# Altium integrated library Linear Technology Power Management Switching Regulator LTC1174-LTC3901.IntLib: 2647 symbols (part 174 of 364)
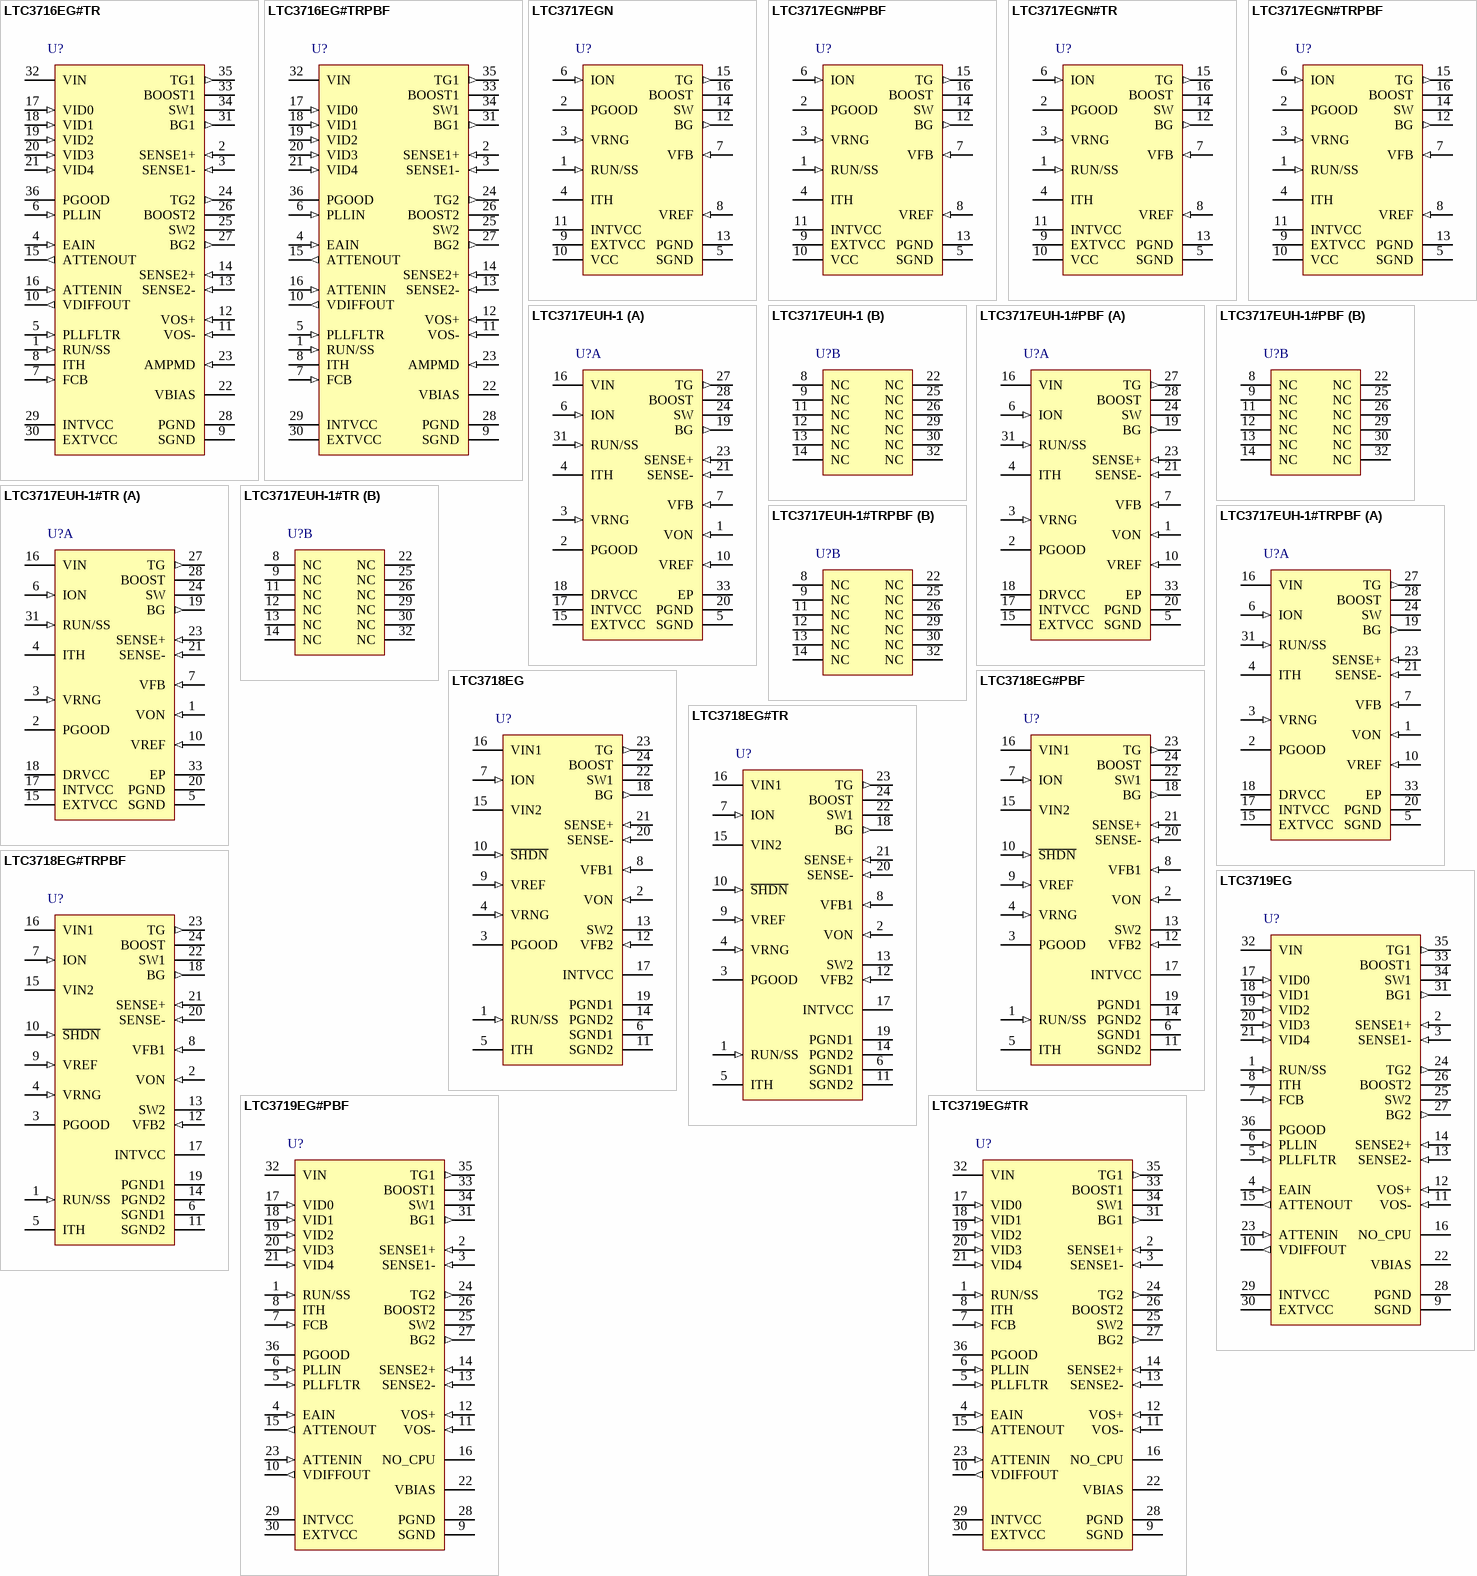
[diagram p204: symbols LTC3716EG#TR to LTC3719EG#TR]

## LTC3716EG#TRPBF
designator U?
2-Phase, 5-Bit VID, Current Mode, High Efficiency, Synchronous Step-Down Switching Regulator, 36-pin SOP (G-36), -40 to 85 degC, Pb-Free, Tape and Reel; Manufacturer: Linear Technology; PartNumber: LTC3716EG#TRPBF; Number of Outputs: 1; PackageReference: G-36; PackageDescription: 36-Pin Plastic SSOP, Body 12.8 x 5.3 mm, Pitch 0.65 mm; Supplier 1: Digi-Key; Supplier Part Number 1: LTC3716EG#TRPBF-ND; Packing: Tape and Reel; RoHS: TRUE; Mounting Technology: Surface Mount; ComponentLink1Description: Manufacturer URL; ComponentLink1URL: http://www.linear.com/; ComponentLink2Description: Datasheet; ComponentLink2URL: http://cds.linear.com/docs/en/datasheet/3716f.pdf; ComponentLink3Description: Package Specification; ComponentLink3URL: http://cds.linear.com/docs/en/packaging/SSOP_36_05-08-1640.pdf
footprint LT-G-36_N (SOP, 36-Leads, Body 13.1x5.6mm, Pitch 0.65mm, IPC Medium Density)
footprint LT-G-36_L (SOP, 36-Leads, Body 13.1x5.6mm, Pitch 0.65mm, IPC High Density)
footprint LT-G-36_M (SOP, 36-Leads, Body 13.1x5.6mm, Pitch 0.65mm, IPC Low Density)
pins: 1 RUN/SS (in) "Combination of Soft-Start, Run Control Input and Short-Circuit Detection Timer. A capacitor to ground at this pin sets the ramp time to full current output. Forcing this pin below 0.8V causes the IC to shut down all internal (See Datasheet)", 2 SENSE1+ (in) "The (+) Input to Each Differential Current Comparator. The ITH pin voltage and built-in offsets between SENSE-  and SENSE+  pins in conjunction with RSENSE set the current trip threshold.", 3 SENSE1- (in) "The (-) Input to the Differential Current Comparators.", 4 EAIN (in) "Input to the error amplifier that compares the feedback voltage to the internal 0.6V reference voltage. This pin is normally connected to a resistive divider from the output of the differential amplifier (DIFFOUT).", 5 PLLFLTR (in) "The phase-locked loop’s lowpass filter is tied to this pin. Alternatively, this pin can be driven with an AC or DC voltage source to vary the frequency of the internal oscillator. Do not apply voltage to this pin prior t(See Datasheet)", 6 PLLIN (in) "External Synchronization Input to Phase Detector. This pin is internally terminated to SGND with 50k ohm. The phase-locked loop will force the rising top gate signal of controller 1 to be synchronized with the rising edge of (See Datasheet)", 7 FCB (in) "Forced Continuous Control Input. This input acts on both output stages and can be used to regulate a secondary winding. Pulling this pin below 0.6V will force continuous synchronous operation. Do not leave this pin floating (See Datasheet)", 8 ITH "Error Amplifier Output and Switching Regulator Compensation Point. Both current comparator’s thresholds increase with this control voltage. The normal voltage range of this pin is from 0V to 2.4V", 9 SGND (power) "Signal Ground. This pin is common to both controllers. Route separately to the PGND pin.", 10 VDIFFOUT (out) "Output of a Differential Amplifier. This pin provides true remote output voltage sensing. VDIFFOUT normally drives an external resistive divider that sets the output voltage.", 11 VOS- (in) "Inputs toan Operational Amplifier. Internal precision resistors configure it as a differential amplifier whose output is VDIFFOUT.", 12 VOS+ (in) "Inputs toan Operational Amplifier. Internal precision resistors configure it as a differential amplifier whose output is VDIFFOUT.", 13 SENSE2- (in) "The (-) Input to the Differential Current Comparators.", 14 SENSE2+ (in) "The (+) Input to Each Differential Current Comparator. The ITH pin voltage and built-in offsets between SENSE-  and SENSE+  pins in conjunction with RSENSE set the current trip threshold.", 15 ATTENOUT (out) "Voltage Feedback Signal Resistively Divided According to the VID Programming Code.", 16 ATTENIN (in) "The Input to the VID Controlled Resistive Divider.", 17 VID0 (in) "VID Control Logic Input Pins.", 18 VID1 (in) "VID Control Logic Input Pins.", 19 VID2 (in) "VID Control Logic Input Pins.", 20 VID3 (in) "VID Control Logic Input Pins.", 21 VID4 (in) "VID Control Logic Input Pins.", 22 VBIAS (power) "Supply Pin for the VID Control Circuit.", 23 AMPMD (in) "This Logic Input pin controls the connections of internal precision resistors that configure the operational amplifier as a unity-gain differential amplifier.", 24 TG2 (out) "High Current Gate Drives for Top N-Channel MOSFETS. These are the outputs of floating drivers with a voltage swing equal to INTVCC superimposed on the switch node voltage SW.", 25 SW2 "Switch Node Connections to Inductors. Voltage swing at these pins is from a Schottky diode (external) voltage drop below ground to VIN", 26 BOOST2 "Bootstrapped Supplies to the Topside Floating Drivers. External capacitors are connected between the BOOST and SW pins, and Schottky diodes are connected between the BOOST and INTVCC pins.", 27 BG2 (out) "High Current Gate Drives for Bottom N-Channel MOSFETS. Voltage swing at these pins is from ground to INTVCC.", 28 PGND (power) "Driver Power Ground. Connect to sources of bottom N-channel MOSFETS and the (-) terminals of CIN.", 29 INTVCC (power) "Output of the Internal 5V Linear Low Dropout Regulator and the EXTVCC Switch. The driver and control circuits are powered from this voltage source. Decouple to power ground with a 1uF ceramic capacitor placed directly (See Datasheet)", 30 EXTVCC (power) "Power Input to an Internal Switch. This switch closes and supplies INTVCC, bypassing the internallow dropout regulator whenever EXTVCC is higher than 4.7V. See EXTVCC Connection in the Applications Information section. Do (See Datasheet)", 31 BG1 (out) "High Current Gate Drives for Bottom N-Channel MOSFETS. Voltage swing at these pins is from ground to INTVCC.", 32 VIN (power) "Main Supply Pin. Should be closely decoupled to the IC’s signal ground pin.", 33 BOOST1 "Bootstrapped Supplies to the Topside Floating Drivers. External capacitors are connected between the BOOST and SW pins, and Schottky diodes are connected between the BOOST and INTVCC pins.", 34 SW1 "Switch Node Connections to Inductors. Voltage swing at these pins is from a Schottky diode (external) voltage drop below ground to VIN", 35 TG1 (out) "High Current Gate Drives for Top N-Channel MOSFETS. These are the outputs of floating drivers with a voltage swing equal to INTVCC superimposed on the switch node voltage SW.", 36 PGOOD (oc) "Open-Drain Logic Output. PGOOD is pulled to ground when the voltage on the EAIN pin is not within +/-10% of its set point."

## LTC3717EGN
designator U?
Wide Operating Range, No Rsense Step-Down Controller for DDR / QDR Memory Termination, 4 to 36 V Vin, 16-pin SOP (GN-16), -40 to 85 degC; Manufacturer: Linear Technology; PartNumber: LTC3717EGN; Number of Outputs: 1; PackageVersion: Rev. B, 03/2012; PackageReference: GN-16; PackageDescription: 16-Pin Plastic SSOP, Body 4.9 x 3.9 mm, Pitch 0.635 mm; Supplier 1: Digi-Key; Supplier Part Number 1: LTC3717EGN-ND; RoHS: FALSE; Mounting Technology: Surface Mount; ComponentLink1Description: Manufacturer URL; ComponentLink1URL: http://www.linear.com/; ComponentLink2Description: Datasheet; ComponentLink2URL: http://cds.linear.com/docs/en/datasheet/3717fs.pdf; ComponentLink3Description: Package Specification; ComponentLink3URL: http://cds.linear.com/docs/en/packaging/05081641_B_GN16.pdf
footprint LT-GN-16_N (SOP, 16-Leads, Body 5x4mm, Pitch 0.635mm, IPC Medium Density)
footprint LT-GN-16_L (SOP, 16-Leads, Body 5x4mm, Pitch 0.635mm, IPC High Density)
footprint LT-GN-16_M (SOP, 16-Leads, Body 5x4mm, Pitch 0.635mm, IPC Low Density)
pins: 1 RUN/SS (in) "Run Control and Soft-Start Input. A capacitor to ground at this pin sets the ramp time to full output current (approximately 3s/uF) and the time delay for overcurrent latchoff (see Applications Information).  Forcing this (See Datasheet)", 2 PGOOD (oc) "Power Good Output. Open drain logic output that is pulled to ground when the output voltage is not within +/-10% of the regulation point.", 3 VRNG (in) "Sense Voltage Range Input. The voltage at this pin is ten times the nominal sense voltage at maximum output current and can be set from 0.5V to 2V by a resistive divider from INTVCC. The nominal sense voltage defaults to (See Datasheet)", 4 ITH "Current Control Threshold and Error Amplifier Compensation Point. The current comparator threshold increases with this control voltage. The voltage ranges from 0V to 2.4V with 0.8V corresponding to zero sense voltage (zero (See Datasheet)", 5 SGND (power) "Signal Ground. All small-signal components and compensation components should connect to this ground, which in turn connects to PGND at one point.", 6 ION (in) "On-Time Current Input. Tie a resistor from VIN to this pin to set the one-shot timer current and thereby set the switching frequency.", 7 VFB (in) "Error Amplifier Feedback Input. This pin connects to VOUT and divides its voltage to 2/3 x VFB through precision internal resistors before it is applied to the input of the error amplifier. Do not apply more than 1.5V on VFB.(See Datasheet)", 8 VREF (in) "Positive Input of Internal Error Amplifier. This pin connects to an external reference and divides its voltage to 1/3 VREF through precision internal resisters before it is applied to the positive input of the error (See Datasheet)", 9 EXTVCC (power) "External VCC Input. When EXTVCC exceeds 4.7V, an internal switch connects this pin to INTVCC and shuts down the internal regulator so that controller and gate drive power is drawn from EXTVCC. Do not exceed 7V at this pin (See Datasheet)", 10 VCC (power) "Bias Input Supply. 4V to 36V operating range. Decouple this pin to PGND with an RC filter (1ohm, 0.1uF).", 11 INTVCC (power) "Internal 5V Regulator Output. The driver and control circuits are powered from this voltage. Decouple this pin to power ground with a minimum of 4.7uF low ESR tantalum or ceramic capacitor", 12 BG (out) "Bottom Gate Drive. Drives the gate of the bottom N-channel MOSFET between ground and INTVCC.", 13 PGND (power) "Power Ground. Connect this pin closely to the source of the bottom N-channel MOSFET, the (-) terminal of CVCC and the (-) terminal of CIN.", 14 SW "Switch Node. The (-) terminal of the bootstrap capacitor CB connects here. This pin swings from a diode voltage drop below ground up to a diode voltage drop above VIN.", 15 TG (out) "Top Gate Drive. Drives the top N-channel MOSFET with a voltage swing equal to INTVCC superimposed on the switch node voltage SW.", 16 BOOST "Boosted Floating Driver Supply. The (+) terminal of the bootstrap capacitor CB connects here. This pin swings from a diode voltage drop below INTVCC up to VIN + INTVCC."

## LTC3717EGN#PBF
designator U?
Wide Operating Range, No Rsense Step-Down Controller for DDR / QDR Memory Termination, 4 to 36 V Vin, 16-pin SOP (GN-16), -40 to 85 degC, Pb-Free; Manufacturer: Linear Technology; PartNumber: LTC3717EGN#PBF; Number of Outputs: 1; PackageVersion: Rev. B, 03/2012; PackageReference: GN-16; PackageDescription: 16-Pin Plastic SSOP, Body 4.9 x 3.9 mm, Pitch 0.635 mm; Supplier 1: Digi-Key; Supplier Part Number 1: LTC3717EGN#PBF-ND; Supplier 2: Newark; Supplier Part Number 2: 56M8133; RoHS: TRUE; Mounting Technology: Surface Mount; ComponentLink1Description: Manufacturer URL; ComponentLink1URL: http://www.linear.com/; ComponentLink2Description: Datasheet; ComponentLink2URL: http://cds.linear.com/docs/en/datasheet/3717fs.pdf; ComponentLink3Description: Package Specification; ComponentLink3URL: http://cds.linear.com/docs/en/packaging/05081641_B_GN16.pdf
footprint LT-GN-16_N (SOP, 16-Leads, Body 5x4mm, Pitch 0.635mm, IPC Medium Density)
footprint LT-GN-16_L (SOP, 16-Leads, Body 5x4mm, Pitch 0.635mm, IPC High Density)
footprint LT-GN-16_M (SOP, 16-Leads, Body 5x4mm, Pitch 0.635mm, IPC Low Density)
pins: 1 RUN/SS (in) "Run Control and Soft-Start Input. A capacitor to ground at this pin sets the ramp time to full output current (approximately 3s/uF) and the time delay for overcurrent latchoff (see Applications Information).  Forcing this (See Datasheet)", 2 PGOOD (oc) "Power Good Output. Open drain logic output that is pulled to ground when the output voltage is not within +/-10% of the regulation point.", 3 VRNG (in) "Sense Voltage Range Input. The voltage at this pin is ten times the nominal sense voltage at maximum output current and can be set from 0.5V to 2V by a resistive divider from INTVCC. The nominal sense voltage defaults to (See Datasheet)", 4 ITH "Current Control Threshold and Error Amplifier Compensation Point. The current comparator threshold increases with this control voltage. The voltage ranges from 0V to 2.4V with 0.8V corresponding to zero sense voltage (zero (See Datasheet)", 5 SGND (power) "Signal Ground. All small-signal components and compensation components should connect to this ground, which in turn connects to PGND at one point.", 6 ION (in) "On-Time Current Input. Tie a resistor from VIN to this pin to set the one-shot timer current and thereby set the switching frequency.", 7 VFB (in) "Error Amplifier Feedback Input. This pin connects to VOUT and divides its voltage to 2/3 x VFB through precision internal resistors before it is applied to the input of the error amplifier. Do not apply more than 1.5V on VFB.(See Datasheet)", 8 VREF (in) "Positive Input of Internal Error Amplifier. This pin connects to an external reference and divides its voltage to 1/3 VREF through precision internal resisters before it is applied to the positive input of the error (See Datasheet)", 9 EXTVCC (power) "External VCC Input. When EXTVCC exceeds 4.7V, an internal switch connects this pin to INTVCC and shuts down the internal regulator so that controller and gate drive power is drawn from EXTVCC. Do not exceed 7V at this pin (See Datasheet)", 10 VCC (power) "Bias Input Supply. 4V to 36V operating range. Decouple this pin to PGND with an RC filter (1ohm, 0.1uF).", 11 INTVCC (power) "Internal 5V Regulator Output. The driver and control circuits are powered from this voltage. Decouple this pin to power ground with a minimum of 4.7uF low ESR tantalum or ceramic capacitor", 12 BG (out) "Bottom Gate Drive. Drives the gate of the bottom N-channel MOSFET between ground and INTVCC.", 13 PGND (power) "Power Ground. Connect this pin closely to the source of the bottom N-channel MOSFET, the (-) terminal of CVCC and the (-) terminal of CIN.", 14 SW "Switch Node. The (-) terminal of the bootstrap capacitor CB connects here. This pin swings from a diode voltage drop below ground up to a diode voltage drop above VIN.", 15 TG (out) "Top Gate Drive. Drives the top N-channel MOSFET with a voltage swing equal to INTVCC superimposed on the switch node voltage SW.", 16 BOOST "Boosted Floating Driver Supply. The (+) terminal of the bootstrap capacitor CB connects here. This pin swings from a diode voltage drop below INTVCC up to VIN + INTVCC."

## LTC3717EGN#TR
designator U?
Wide Operating Range, No Rsense Step-Down Controller for DDR / QDR Memory Termination, 4 to 36 V Vin, 16-pin SOP (GN-16), -40 to 85 degC, Tape and Reel; Manufacturer: Linear Technology; PartNumber: LTC3717EGN#TR; Number of Outputs: 1; PackageVersion: Rev. B, 03/2012; PackageReference: GN-16; PackageDescription: 16-Pin Plastic SSOP, Body 4.9 x 3.9 mm, Pitch 0.635 mm; Supplier 1: Digi-Key; Supplier Part Number 1: LTC3717EGNTR-ND; Packing: Tape and Reel; RoHS: FALSE; Mounting Technology: Surface Mount; ComponentLink1Description: Manufacturer URL; ComponentLink1URL: http://www.linear.com/; ComponentLink2Description: Datasheet; ComponentLink2URL: http://cds.linear.com/docs/en/datasheet/3717fs.pdf; ComponentLink3Description: Package Specification; ComponentLink3URL: http://cds.linear.com/docs/en/packaging/05081641_B_GN16.pdf
footprint LT-GN-16_N (SOP, 16-Leads, Body 5x4mm, Pitch 0.635mm, IPC Medium Density)
footprint LT-GN-16_L (SOP, 16-Leads, Body 5x4mm, Pitch 0.635mm, IPC High Density)
footprint LT-GN-16_M (SOP, 16-Leads, Body 5x4mm, Pitch 0.635mm, IPC Low Density)
pins: 1 RUN/SS (in) "Run Control and Soft-Start Input. A capacitor to ground at this pin sets the ramp time to full output current (approximately 3s/uF) and the time delay for overcurrent latchoff (see Applications Information).  Forcing this (See Datasheet)", 2 PGOOD (oc) "Power Good Output. Open drain logic output that is pulled to ground when the output voltage is not within +/-10% of the regulation point.", 3 VRNG (in) "Sense Voltage Range Input. The voltage at this pin is ten times the nominal sense voltage at maximum output current and can be set from 0.5V to 2V by a resistive divider from INTVCC. The nominal sense voltage defaults to (See Datasheet)", 4 ITH "Current Control Threshold and Error Amplifier Compensation Point. The current comparator threshold increases with this control voltage. The voltage ranges from 0V to 2.4V with 0.8V corresponding to zero sense voltage (zero (See Datasheet)", 5 SGND (power) "Signal Ground. All small-signal components and compensation components should connect to this ground, which in turn connects to PGND at one point.", 6 ION (in) "On-Time Current Input. Tie a resistor from VIN to this pin to set the one-shot timer current and thereby set the switching frequency.", 7 VFB (in) "Error Amplifier Feedback Input. This pin connects to VOUT and divides its voltage to 2/3 x VFB through precision internal resistors before it is applied to the input of the error amplifier. Do not apply more than 1.5V on VFB.(See Datasheet)", 8 VREF (in) "Positive Input of Internal Error Amplifier. This pin connects to an external reference and divides its voltage to 1/3 VREF through precision internal resisters before it is applied to the positive input of the error (See Datasheet)", 9 EXTVCC (power) "External VCC Input. When EXTVCC exceeds 4.7V, an internal switch connects this pin to INTVCC and shuts down the internal regulator so that controller and gate drive power is drawn from EXTVCC. Do not exceed 7V at this pin (See Datasheet)", 10 VCC (power) "Bias Input Supply. 4V to 36V operating range. Decouple this pin to PGND with an RC filter (1ohm, 0.1uF).", 11 INTVCC (power) "Internal 5V Regulator Output. The driver and control circuits are powered from this voltage. Decouple this pin to power ground with a minimum of 4.7uF low ESR tantalum or ceramic capacitor", 12 BG (out) "Bottom Gate Drive. Drives the gate of the bottom N-channel MOSFET between ground and INTVCC.", 13 PGND (power) "Power Ground. Connect this pin closely to the source of the bottom N-channel MOSFET, the (-) terminal of CVCC and the (-) terminal of CIN.", 14 SW "Switch Node. The (-) terminal of the bootstrap capacitor CB connects here. This pin swings from a diode voltage drop below ground up to a diode voltage drop above VIN.", 15 TG (out) "Top Gate Drive. Drives the top N-channel MOSFET with a voltage swing equal to INTVCC superimposed on the switch node voltage SW.", 16 BOOST "Boosted Floating Driver Supply. The (+) terminal of the bootstrap capacitor CB connects here. This pin swings from a diode voltage drop below INTVCC up to VIN + INTVCC."

## LTC3717EGN#TRPBF
designator U?
Wide Operating Range, No Rsense Step-Down Controller for DDR / QDR Memory Termination, 4 to 36 V Vin, 16-pin SOP (GN-16), -40 to 85 degC, Pb-Free, Tape and Reel; Manufacturer: Linear Technology; PartNumber: LTC3717EGN#TRPBF; Number of Outputs: 1; PackageVersion: Rev. B, 03/2012; PackageReference: GN-16; PackageDescription: 16-Pin Plastic SSOP, Body 4.9 x 3.9 mm, Pitch 0.635 mm; Supplier 1: Digi-Key; Supplier Part Number 1: LTC3717EGN#TRPBF-ND; Packing: Tape and Reel; RoHS: TRUE; Mounting Technology: Surface Mount; ComponentLink1Description: Manufacturer URL; ComponentLink1URL: http://www.linear.com/; ComponentLink2Description: Datasheet; ComponentLink2URL: http://cds.linear.com/docs/en/datasheet/3717fs.pdf; ComponentLink3Description: Package Specification; ComponentLink3URL: http://cds.linear.com/docs/en/packaging/05081641_B_GN16.pdf
footprint LT-GN-16_N (SOP, 16-Leads, Body 5x4mm, Pitch 0.635mm, IPC Medium Density)
footprint LT-GN-16_L (SOP, 16-Leads, Body 5x4mm, Pitch 0.635mm, IPC High Density)
footprint LT-GN-16_M (SOP, 16-Leads, Body 5x4mm, Pitch 0.635mm, IPC Low Density)
pins: 1 RUN/SS (in) "Run Control and Soft-Start Input. A capacitor to ground at this pin sets the ramp time to full output current (approximately 3s/uF) and the time delay for overcurrent latchoff (see Applications Information).  Forcing this (See Datasheet)", 2 PGOOD (oc) "Power Good Output. Open drain logic output that is pulled to ground when the output voltage is not within +/-10% of the regulation point.", 3 VRNG (in) "Sense Voltage Range Input. The voltage at this pin is ten times the nominal sense voltage at maximum output current and can be set from 0.5V to 2V by a resistive divider from INTVCC. The nominal sense voltage defaults to (See Datasheet)", 4 ITH "Current Control Threshold and Error Amplifier Compensation Point. The current comparator threshold increases with this control voltage. The voltage ranges from 0V to 2.4V with 0.8V corresponding to zero sense voltage (zero (See Datasheet)", 5 SGND (power) "Signal Ground. All small-signal components and compensation components should connect to this ground, which in turn connects to PGND at one point.", 6 ION (in) "On-Time Current Input. Tie a resistor from VIN to this pin to set the one-shot timer current and thereby set the switching frequency.", 7 VFB (in) "Error Amplifier Feedback Input. This pin connects to VOUT and divides its voltage to 2/3 x VFB through precision internal resistors before it is applied to the input of the error amplifier. Do not apply more than 1.5V on VFB.(See Datasheet)", 8 VREF (in) "Positive Input of Internal Error Amplifier. This pin connects to an external reference and divides its voltage to 1/3 VREF through precision internal resisters before it is applied to the positive input of the error (See Datasheet)", 9 EXTVCC (power) "External VCC Input. When EXTVCC exceeds 4.7V, an internal switch connects this pin to INTVCC and shuts down the internal regulator so that controller and gate drive power is drawn from EXTVCC. Do not exceed 7V at this pin (See Datasheet)", 10 VCC (power) "Bias Input Supply. 4V to 36V operating range. Decouple this pin to PGND with an RC filter (1ohm, 0.1uF).", 11 INTVCC (power) "Internal 5V Regulator Output. The driver and control circuits are powered from this voltage. Decouple this pin to power ground with a minimum of 4.7uF low ESR tantalum or ceramic capacitor", 12 BG (out) "Bottom Gate Drive. Drives the gate of the bottom N-channel MOSFET between ground and INTVCC.", 13 PGND (power) "Power Ground. Connect this pin closely to the source of the bottom N-channel MOSFET, the (-) terminal of CVCC and the (-) terminal of CIN.", 14 SW "Switch Node. The (-) terminal of the bootstrap capacitor CB connects here. This pin swings from a diode voltage drop below ground up to a diode voltage drop above VIN.", 15 TG (out) "Top Gate Drive. Drives the top N-channel MOSFET with a voltage swing equal to INTVCC superimposed on the switch node voltage SW.", 16 BOOST "Boosted Floating Driver Supply. The (+) terminal of the bootstrap capacitor CB connects here. This pin swings from a diode voltage drop below INTVCC up to VIN + INTVCC."

## LTC3717EUH-1
designator U?
Wide Operating Range, No Rsense Step-Down Controller for DDR / QDR Memory Termination = 1/2 Vref, 0.7 to 18 V Vout, 32-pin QFN (UH-32), -40 to 85 degC; Manufacturer: Linear Technology; PartNumber: LTC3717EUH-1; Number of Outputs: 1; PackageVersion: Rev. D, 06/2010; PackageReference: UH-32; PackageDescription: 32-Pin Plastic QFN, Body 5 x 5 mm, Pitch 0.5 mm; Supplier 1: Digi-Key; Supplier Part Number 1: LTC3717EUH-1-ND; RoHS: FALSE; Mounting Technology: Surface Mount; Code_JEDEC: MO-220; ComponentLink1Description: Manufacturer URL; ComponentLink1URL: http://www.linear.com/; ComponentLink2Description: Datasheet; ComponentLink2URL: http://cds.linear.com/docs/en/datasheet/37171fs.pdf; ComponentLink3Description: Package Specification; ComponentLink3URL: http://cds.linear.com/docs/en/packaging/QFN_32_05-08-1693.pdf
footprint LT-UH-32_N (QFN, 32-Leads, Body 5.1x5.1mm, Pitch 0.5mm, Thermal Pad 3.45X3.45mm, IPC Medium Density)
footprint LT-UH-32_L (QFN, 32-Leads, Body 5.1x5.1mm, Pitch 0.5mm, Thermal Pad 3.45X3.45mm, IPC High Density)
footprint LT-UH-32_M (QFN, 32-Leads, Body 5.1x5.1mm, Pitch 0.5mm, Thermal Pad 3.45X3.45mm, IPC Low Density)
part A pins: 1 VON (in) "On-Time Voltage Input. Voltage trip point for the on-time comparator. Tying this pin to the output voltage makes the on-time proportional to VOUT. The comparator input defaults to 0.7V when the pin is grounded, 2.4V when the (See Datasheet)", 2 PGOOD (oc) "Power Good Output. Open-drain logic output that is pulled to ground when the output voltage is not within +/-10% of the regulation point.", 3 VRNG (in) "Sense Voltage Range Input. The voltage at this pin is ten times the nominal sense voltage at maximum output current and can be set from 0.5V to 2V by a resistive divider from INTVCC. The nominal sense voltage defaults to (See Datasheet)", 4 ITH "Current Control Threshold and Error Amplifier Compensation Point. The current comparator threshold increases with this control voltage. The voltage ranges from 0V to 2.4V with 0.8V corresponding to zero sense voltage (zero (See Datasheet)", 5 SGND (power) "Signal Ground. All small-signal components and compensation components should connect to this ground, which in turn connects to PGND at one point. Pin 5 is electrically connected to the exposed pad. Exposed pad must be (See Datasheet)", 6 ION (in) "On-Time Current Input. Tie a resistor from VIN to this pin to set the one-shot timer current and thereby set the switching frequency.", 7 VFB (in) "Error Amplifier Feedback Input. This pin connects to VOUT and divides its voltage to 2/3 ?VFB through precision internal resistors before it is applied to the input of the error amplifier. Do not apply more than 1.5V o(See Datasheet)", 10 VREF (in) "Positive Input of Internal Error Amplifier. This pin connects to an external reference and divides its voltage to 1/3 VREF through precision internal resisters before it is applied to the positive input of the error (See Datasheet)", 15 EXTVCC (power) "External VCC Input. When EXTVCC exceeds 4.7V, an internal switch connects this pin to INTVCC and shuts down the internal regulator so that controller and gate drive power is drawn from EXTVCC. Do not exceed 7V at this pin (See Datasheet)", 16 VIN (power) "Main Input Supply. Decouple this pin to PGND with an RC filter (1ohm, 0.1uF).", 17 INTVCC (power) "Internal Regulator Output. The control circuits are powered from this voltage when VIN is greater than 5V. Decouple this pin to power ground with a minimum of 4.7uF low ESR tantalum or ceramic capacitor.", 18 DRVCC (power) "Voltage Supply to Bottom Gate Driver. Normally connected to the INTVCC pin through a decoupling RC filter (1ohm/0.1uF). Decouple this pin to power ground with a minimum of 4.7uF low ESR tantalum or ceramic capacitor. Do not (See Datasheet)", 19 BG (out) "Bottom Gate Drive. Drives the gate of the bottom N-channel MOSFET between ground and DRVCC.", 20 PGND (power) "Power Ground. Connect these pins closely to the source of the bottom N-channel MOSFET, the (-) terminal of CVCC and the (-) terminal of CIN.", 21 SENSE- (in) "Negative Current Sense Comparator Input. The (-) input to the current comparator is normally connected to power ground unless using a resistive divider from INTVCC (see Applications Information).", 23 SENSE+ (in) "Positive Current Sense Comparator Input. The (+) input to the current comparator is normally connected to the SW node unless using a sense resistor (see Applications Information).", 24 SW "Switch Node. The (-) terminal of the bootstrap capacitor CB connects here. This pin swings from a diode voltage drop below ground up to VIN.", 27 TG (out) "Gate Drive. Drives the top N-channel MOSFET with a voltage swing equal to INTVCC superimposed on the switch node voltage SW.", 28 BOOST "Boosted Floating Driver Supply. The (+) terminal of the bootstrap capacitor CB connects here. This pin swings from a diode voltage drop below INTVCC up to VIN + INTVCC.", 31 RUN/SS (in) "Run Control and Soft-Start Input. A capacitor to ground at this pin sets the ramp time to full output current (approximately 3s/uF) and the time delay for overcurrent latchoff (see Applications Information). Forcing this pin (See Datasheet)", 33 EP (power) "Signal Ground. All small-signal components and compensation components should connect to this ground, which in turn connects to PGND at one point. Pin 5 is electrically connected to the exposed pad. Exposed pad must be (See Datasheet)"
part B pins: 8 NC "Do Not Connect.", 9 NC "Do Not Connect.", 11 NC "Do Not Connect.", 12 NC "Do Not Connect.", 13 NC "Do Not Connect.", 14 NC "Do Not Connect.", 22 NC "Do Not Connect.", 25 NC "Do Not Connect.", 26 NC "Do Not Connect.", 29 NC "Do Not Connect.", 30 NC "Do Not Connect.", 32 NC "Do Not Connect."

## LTC3717EUH-1#PBF
designator U?
Wide Operating Range, No Rsense Step-Down Controller for DDR / QDR Memory Termination = 1/2 Vref, 0.7 to 18 V Vout, 32-pin QFN (UH-32), -40 to 85 degC, Pb-Free; Manufacturer: Linear Technology; PartNumber: LTC3717EUH-1#PBF; Number of Outputs: 1; PackageVersion: Rev. D, 06/2010; PackageReference: UH-32; PackageDescription: 32-Pin Plastic QFN, Body 5 x 5 mm, Pitch 0.5 mm; Supplier 1: Digi-Key; Supplier Part Number 1: LTC3717EUH-1#PBF-ND; RoHS: TRUE; Mounting Technology: Surface Mount; Code_JEDEC: MO-220; ComponentLink1Description: Manufacturer URL; ComponentLink1URL: http://www.linear.com/; ComponentLink2Description: Datasheet; ComponentLink2URL: http://cds.linear.com/docs/en/datasheet/37171fs.pdf; ComponentLink3Description: Package Specification; ComponentLink3URL: http://cds.linear.com/docs/en/packaging/QFN_32_05-08-1693.pdf
footprint LT-UH-32_N (QFN, 32-Leads, Body 5.1x5.1mm, Pitch 0.5mm, Thermal Pad 3.45X3.45mm, IPC Medium Density)
footprint LT-UH-32_L (QFN, 32-Leads, Body 5.1x5.1mm, Pitch 0.5mm, Thermal Pad 3.45X3.45mm, IPC High Density)
footprint LT-UH-32_M (QFN, 32-Leads, Body 5.1x5.1mm, Pitch 0.5mm, Thermal Pad 3.45X3.45mm, IPC Low Density)
part A pins: 1 VON (in) "On-Time Voltage Input. Voltage trip point for the on-time comparator. Tying this pin to the output voltage makes the on-time proportional to VOUT. The comparator input defaults to 0.7V when the pin is grounded, 2.4V when the (See Datasheet)", 2 PGOOD (oc) "Power Good Output. Open-drain logic output that is pulled to ground when the output voltage is not within +/-10% of the regulation point.", 3 VRNG (in) "Sense Voltage Range Input. The voltage at this pin is ten times the nominal sense voltage at maximum output current and can be set from 0.5V to 2V by a resistive divider from INTVCC. The nominal sense voltage defaults to (See Datasheet)", 4 ITH "Current Control Threshold and Error Amplifier Compensation Point. The current comparator threshold increases with this control voltage. The voltage ranges from 0V to 2.4V with 0.8V corresponding to zero sense voltage (zero (See Datasheet)", 5 SGND (power) "Signal Ground. All small-signal components and compensation components should connect to this ground, which in turn connects to PGND at one point. Pin 5 is electrically connected to the exposed pad. Exposed pad must be (See Datasheet)", 6 ION (in) "On-Time Current Input. Tie a resistor from VIN to this pin to set the one-shot timer current and thereby set the switching frequency.", 7 VFB (in) "Error Amplifier Feedback Input. This pin connects to VOUT and divides its voltage to 2/3 ?VFB through precision internal resistors before it is applied to the input of the error amplifier. Do not apply more than 1.5V o(See Datasheet)", 10 VREF (in) "Positive Input of Internal Error Amplifier. This pin connects to an external reference and divides its voltage to 1/3 VREF through precision internal resisters before it is applied to the positive input of the error (See Datasheet)", 15 EXTVCC (power) "External VCC Input. When EXTVCC exceeds 4.7V, an internal switch connects this pin to INTVCC and shuts down the internal regulator so that controller and gate drive power is drawn from EXTVCC. Do not exceed 7V at this pin (See Datasheet)", 16 VIN (power) "Main Input Supply. Decouple this pin to PGND with an RC filter (1ohm, 0.1uF).", 17 INTVCC (power) "Internal Regulator Output. The control circuits are powered from this voltage when VIN is greater than 5V. Decouple this pin to power ground with a minimum of 4.7uF low ESR tantalum or ceramic capacitor.", 18 DRVCC (power) "Voltage Supply to Bottom Gate Driver. Normally connected to the INTVCC pin through a decoupling RC filter (1ohm/0.1uF). Decouple this pin to power ground with a minimum of 4.7uF low ESR tantalum or ceramic capacitor. Do not (See Datasheet)", 19 BG (out) "Bottom Gate Drive. Drives the gate of the bottom N-channel MOSFET between ground and DRVCC.", 20 PGND (power) "Power Ground. Connect these pins closely to the source of the bottom N-channel MOSFET, the (-) terminal of CVCC and the (-) terminal of CIN.", 21 SENSE- (in) "Negative Current Sense Comparator Input. The (-) input to the current comparator is normally connected to power ground unless using a resistive divider from INTVCC (see Applications Information).", 23 SENSE+ (in) "Positive Current Sense Comparator Input. The (+) input to the current comparator is normally connected to the SW node unless using a sense resistor (see Applications Information).", 24 SW "Switch Node. The (-) terminal of the bootstrap capacitor CB connects here. This pin swings from a diode voltage drop below ground up to VIN.", 27 TG (out) "Gate Drive. Drives the top N-channel MOSFET with a voltage swing equal to INTVCC superimposed on the switch node voltage SW.", 28 BOOST "Boosted Floating Driver Supply. The (+) terminal of the bootstrap capacitor CB connects here. This pin swings from a diode voltage drop below INTVCC up to VIN + INTVCC.", 31 RUN/SS (in) "Run Control and Soft-Start Input. A capacitor to ground at this pin sets the ramp time to full output current (approximately 3s/uF) and the time delay for overcurrent latchoff (see Applications Information). Forcing this pin (See Datasheet)", 33 EP (power) "Signal Ground. All small-signal components and compensation components should connect to this ground, which in turn connects to PGND at one point. Pin 5 is electrically connected to the exposed pad. Exposed pad must be (See Datasheet)"
part B pins: 8 NC "Do Not Connect.", 9 NC "Do Not Connect.", 11 NC "Do Not Connect.", 12 NC "Do Not Connect.", 13 NC "Do Not Connect.", 14 NC "Do Not Connect.", 22 NC "Do Not Connect.", 25 NC "Do Not Connect.", 26 NC "Do Not Connect.", 29 NC "Do Not Connect.", 30 NC "Do Not Connect.", 32 NC "Do Not Connect."

## LTC3717EUH-1#TR
designator U?
Wide Operating Range, No Rsense Step-Down Controller for DDR / QDR Memory Termination = 1/2 Vref, 0.7 to 18 V Vout, 32-pin QFN (UH-32), -40 to 85 degC, Tape and Reel; Manufacturer: Linear Technology; PartNumber: LTC3717EUH-1#TR; Number of Outputs: 1; PackageVersion: Rev. D, 06/2010; PackageReference: UH-32; PackageDescription: 32-Pin Plastic QFN, Body 5 x 5 mm, Pitch 0.5 mm; Supplier 1: Digi-Key; Supplier Part Number 1: LTC3717EUH-1#TR-ND; Packing: Tape and Reel; RoHS: FALSE; Mounting Technology: Surface Mount; Code_JEDEC: MO-220; ComponentLink1Description: Manufacturer URL; ComponentLink1URL: http://www.linear.com/; ComponentLink2Description: Datasheet; ComponentLink2URL: http://cds.linear.com/docs/en/datasheet/37171fs.pdf; ComponentLink3Description: Package Specification; ComponentLink3URL: http://cds.linear.com/docs/en/packaging/QFN_32_05-08-1693.pdf
footprint LT-UH-32_N (QFN, 32-Leads, Body 5.1x5.1mm, Pitch 0.5mm, Thermal Pad 3.45X3.45mm, IPC Medium Density)
footprint LT-UH-32_L (QFN, 32-Leads, Body 5.1x5.1mm, Pitch 0.5mm, Thermal Pad 3.45X3.45mm, IPC High Density)
footprint LT-UH-32_M (QFN, 32-Leads, Body 5.1x5.1mm, Pitch 0.5mm, Thermal Pad 3.45X3.45mm, IPC Low Density)
part A pins: 1 VON (in) "On-Time Voltage Input. Voltage trip point for the on-time comparator. Tying this pin to the output voltage makes the on-time proportional to VOUT. The comparator input defaults to 0.7V when the pin is grounded, 2.4V when the (See Datasheet)", 2 PGOOD (oc) "Power Good Output. Open-drain logic output that is pulled to ground when the output voltage is not within +/-10% of the regulation point.", 3 VRNG (in) "Sense Voltage Range Input. The voltage at this pin is ten times the nominal sense voltage at maximum output current and can be set from 0.5V to 2V by a resistive divider from INTVCC. The nominal sense voltage defaults to (See Datasheet)", 4 ITH "Current Control Threshold and Error Amplifier Compensation Point. The current comparator threshold increases with this control voltage. The voltage ranges from 0V to 2.4V with 0.8V corresponding to zero sense voltage (zero (See Datasheet)", 5 SGND (power) "Signal Ground. All small-signal components and compensation components should connect to this ground, which in turn connects to PGND at one point. Pin 5 is electrically connected to the exposed pad. Exposed pad must be (See Datasheet)", 6 ION (in) "On-Time Current Input. Tie a resistor from VIN to this pin to set the one-shot timer current and thereby set the switching frequency.", 7 VFB (in) "Error Amplifier Feedback Input. This pin connects to VOUT and divides its voltage to 2/3 ?VFB through precision internal resistors before it is applied to the input of the error amplifier. Do not apply more than 1.5V o(See Datasheet)", 10 VREF (in) "Positive Input of Internal Error Amplifier. This pin connects to an external reference and divides its voltage to 1/3 VREF through precision internal resisters before it is applied to the positive input of the error (See Datasheet)", 15 EXTVCC (power) "External VCC Input. When EXTVCC exceeds 4.7V, an internal switch connects this pin to INTVCC and shuts down the internal regulator so that controller and gate drive power is drawn from EXTVCC. Do not exceed 7V at this pin (See Datasheet)", 16 VIN (power) "Main Input Supply. Decouple this pin to PGND with an RC filter (1ohm, 0.1uF).", 17 INTVCC (power) "Internal Regulator Output. The control circuits are powered from this voltage when VIN is greater than 5V. Decouple this pin to power ground with a minimum of 4.7uF low ESR tantalum or ceramic capacitor.", 18 DRVCC (power) "Voltage Supply to Bottom Gate Driver. Normally connected to the INTVCC pin through a decoupling RC filter (1ohm/0.1uF). Decouple this pin to power ground with a minimum of 4.7uF low ESR tantalum or ceramic capacitor. Do not (See Datasheet)", 19 BG (out) "Bottom Gate Drive. Drives the gate of the bottom N-channel MOSFET between ground and DRVCC.", 20 PGND (power) "Power Ground. Connect these pins closely to the source of the bottom N-channel MOSFET, the (-) terminal of CVCC and the (-) terminal of CIN.", 21 SENSE- (in) "Negative Current Sense Comparator Input. The (-) input to the current comparator is normally connected to power ground unless using a resistive divider from INTVCC (see Applications Information).", 23 SENSE+ (in) "Positive Current Sense Comparator Input. The (+) input to the current comparator is normally connected to the SW node unless using a sense resistor (see Applications Information).", 24 SW "Switch Node. The (-) terminal of the bootstrap capacitor CB connects here. This pin swings from a diode voltage drop below ground up to VIN.", 27 TG (out) "Gate Drive. Drives the top N-channel MOSFET with a voltage swing equal to INTVCC superimposed on the switch node voltage SW.", 28 BOOST "Boosted Floating Driver Supply. The (+) terminal of the bootstrap capacitor CB connects here. This pin swings from a diode voltage drop below INTVCC up to VIN + INTVCC.", 31 RUN/SS (in) "Run Control and Soft-Start Input. A capacitor to ground at this pin sets the ramp time to full output current (approximately 3s/uF) and the time delay for overcurrent latchoff (see Applications Information). Forcing this pin (See Datasheet)", 33 EP (power) "Signal Ground. All small-signal components and compensation components should connect to this ground, which in turn connects to PGND at one point. Pin 5 is electrically connected to the exposed pad. Exposed pad must be (See Datasheet)"
part B pins: 8 NC "Do Not Connect.", 9 NC "Do Not Connect.", 11 NC "Do Not Connect.", 12 NC "Do Not Connect.", 13 NC "Do Not Connect.", 14 NC "Do Not Connect.", 22 NC "Do Not Connect.", 25 NC "Do Not Connect.", 26 NC "Do Not Connect.", 29 NC "Do Not Connect.", 30 NC "Do Not Connect.", 32 NC "Do Not Connect."

## LTC3717EUH-1#TRPBF
designator U?
Wide Operating Range, No Rsense Step-Down Controller for DDR / QDR Memory Termination = 1/2 Vref, 0.7 to 18 V Vout, 32-pin QFN (UH-32), -40 to 85 degC, Pb-Free, Tape and Reel; Manufacturer: Linear Technology; PartNumber: LTC3717EUH-1#TRPBF; Number of Outputs: 1; PackageVersion: Rev. D, 06/2010; PackageReference: UH-32; PackageDescription: 32-Pin Plastic QFN, Body 5 x 5 mm, Pitch 0.5 mm; Supplier 1: Digi-Key; Supplier Part Number 1: LTC3717EUH-1#TRPBF-ND; Packing: Tape and Reel; RoHS: TRUE; Mounting Technology: Surface Mount; Code_JEDEC: MO-220; ComponentLink1Description: Manufacturer URL; ComponentLink1URL: http://www.linear.com/; ComponentLink2Description: Datasheet; ComponentLink2URL: http://cds.linear.com/docs/en/datasheet/37171fs.pdf; ComponentLink3Description: Package Specification; ComponentLink3URL: http://cds.linear.com/docs/en/packaging/QFN_32_05-08-1693.pdf
footprint LT-UH-32_N (QFN, 32-Leads, Body 5.1x5.1mm, Pitch 0.5mm, Thermal Pad 3.45X3.45mm, IPC Medium Density)
footprint LT-UH-32_L (QFN, 32-Leads, Body 5.1x5.1mm, Pitch 0.5mm, Thermal Pad 3.45X3.45mm, IPC High Density)
footprint LT-UH-32_M (QFN, 32-Leads, Body 5.1x5.1mm, Pitch 0.5mm, Thermal Pad 3.45X3.45mm, IPC Low Density)
part A pins: 1 VON (in) "On-Time Voltage Input. Voltage trip point for the on-time comparator. Tying this pin to the output voltage makes the on-time proportional to VOUT. The comparator input defaults to 0.7V when the pin is grounded, 2.4V when the (See Datasheet)", 2 PGOOD (oc) "Power Good Output. Open-drain logic output that is pulled to ground when the output voltage is not within +/-10% of the regulation point.", 3 VRNG (in) "Sense Voltage Range Input. The voltage at this pin is ten times the nominal sense voltage at maximum output current and can be set from 0.5V to 2V by a resistive divider from INTVCC. The nominal sense voltage defaults to (See Datasheet)", 4 ITH "Current Control Threshold and Error Amplifier Compensation Point. The current comparator threshold increases with this control voltage. The voltage ranges from 0V to 2.4V with 0.8V corresponding to zero sense voltage (zero (See Datasheet)", 5 SGND (power) "Signal Ground. All small-signal components and compensation components should connect to this ground, which in turn connects to PGND at one point. Pin 5 is electrically connected to the exposed pad. Exposed pad must be (See Datasheet)", 6 ION (in) "On-Time Current Input. Tie a resistor from VIN to this pin to set the one-shot timer current and thereby set the switching frequency.", 7 VFB (in) "Error Amplifier Feedback Input. This pin connects to VOUT and divides its voltage to 2/3 ?VFB through precision internal resistors before it is applied to the input of the error amplifier. Do not apply more than 1.5V o(See Datasheet)", 10 VREF (in) "Positive Input of Internal Error Amplifier. This pin connects to an external reference and divides its voltage to 1/3 VREF through precision internal resisters before it is applied to the positive input of the error (See Datasheet)", 15 EXTVCC (power) "External VCC Input. When EXTVCC exceeds 4.7V, an internal switch connects this pin to INTVCC and shuts down the internal regulator so that controller and gate drive power is drawn from EXTVCC. Do not exceed 7V at this pin (See Datasheet)", 16 VIN (power) "Main Input Supply. Decouple this pin to PGND with an RC filter (1ohm, 0.1uF).", 17 INTVCC (power) "Internal Regulator Output. The control circuits are powered from this voltage when VIN is greater than 5V. Decouple this pin to power ground with a minimum of 4.7uF low ESR tantalum or ceramic capacitor.", 18 DRVCC (power) "Voltage Supply to Bottom Gate Driver. Normally connected to the INTVCC pin through a decoupling RC filter (1ohm/0.1uF). Decouple this pin to power ground with a minimum of 4.7uF low ESR tantalum or ceramic capacitor. Do not (See Datasheet)", 19 BG (out) "Bottom Gate Drive. Drives the gate of the bottom N-channel MOSFET between ground and DRVCC.", 20 PGND (power) "Power Ground. Connect these pins closely to the source of the bottom N-channel MOSFET, the (-) terminal of CVCC and the (-) terminal of CIN.", 21 SENSE- (in) "Negative Current Sense Comparator Input. The (-) input to the current comparator is normally connected to power ground unless using a resistive divider from INTVCC (see Applications Information).", 23 SENSE+ (in) "Positive Current Sense Comparator Input. The (+) input to the current comparator is normally connected to the SW node unless using a sense resistor (see Applications Information).", 24 SW "Switch Node. The (-) terminal of the bootstrap capacitor CB connects here. This pin swings from a diode voltage drop below ground up to VIN.", 27 TG (out) "Gate Drive. Drives the top N-channel MOSFET with a voltage swing equal to INTVCC superimposed on the switch node voltage SW.", 28 BOOST "Boosted Floating Driver Supply. The (+) terminal of the bootstrap capacitor CB connects here. This pin swings from a diode voltage drop below INTVCC up to VIN + INTVCC.", 31 RUN/SS (in) "Run Control and Soft-Start Input. A capacitor to ground at this pin sets the ramp time to full output current (approximately 3s/uF) and the time delay for overcurrent latchoff (see Applications Information). Forcing this pin (See Datasheet)", 33 EP (power) "Signal Ground. All small-signal components and compensation components should connect to this ground, which in turn connects to PGND at one point. Pin 5 is electrically connected to the exposed pad. Exposed pad must be (See Datasheet)"
part B pins: 8 NC "Do Not Connect.", 9 NC "Do Not Connect.", 11 NC "Do Not Connect.", 12 NC "Do Not Connect.", 13 NC "Do Not Connect.", 14 NC "Do Not Connect.", 22 NC "Do Not Connect.", 25 NC "Do Not Connect.", 26 NC "Do Not Connect.", 29 NC "Do Not Connect.", 30 NC "Do Not Connect.", 32 NC "Do Not Connect."